# Altium footprint library BAT-HLD-001.PcbLib: 2 footprints
Each footprint in its own frame and in the unit in brackets; x right, y up, seen from the top. Pads: shape width x height; smd on the part's side, far side on the other; paste and mask are expansions set on the pad; w line width, h text height; cw(c..) or ccw(c..) is an arc to the next point about the centre after c.
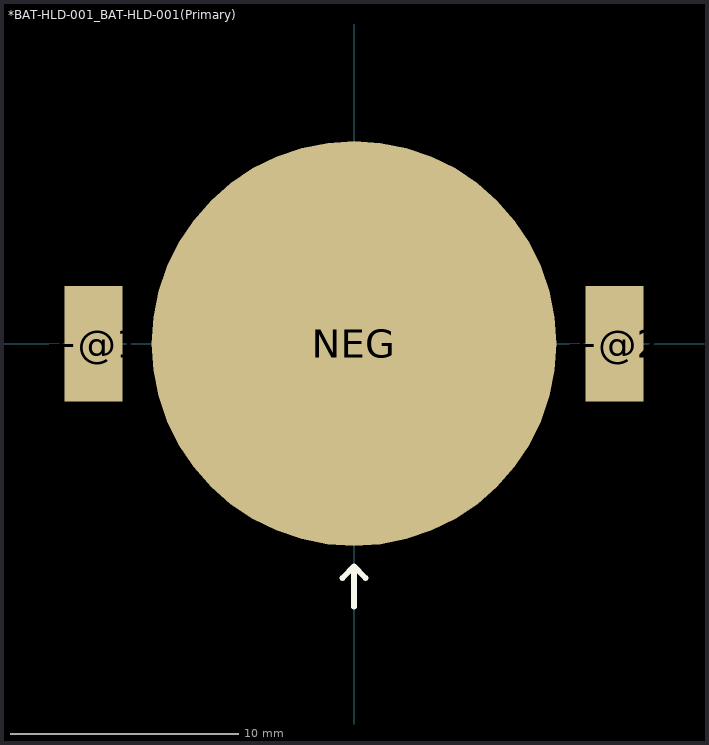
[diagram p0: the footprints below, top view; thin cyan lines are the x and y axes]

## *BAT-HLD-001_BAT-HLD-001(Primary) [mil]
pads (3):
  rect 100x200 smd: +@1(-450,0) +@2(450,0)
  round 700 smd paste-350: NEG(0,0)
Top Overlay:
  lines w10: -20,-405 0,-385 ; 0,-455 0,-385 ; 20,-405 0,-385
3D body "BAT-HLD-001.STEP": height 170.5, standoff 0.5, extent -450,-305 450,305

## PCBComponent_1 [mil]